# Altium footprint library alexsb.PCBLIB: 444 footprints (part 26 of 28)
Each footprint in its own frame and in the unit in brackets; x right, y up, seen from the top. Pads: shape width x height; smd on the part's side, far side on the other; paste and mask are expansions set on the pad; w line width, h text height; cw(c..) or ccw(c..) is an arc to the next point about the centre after c.
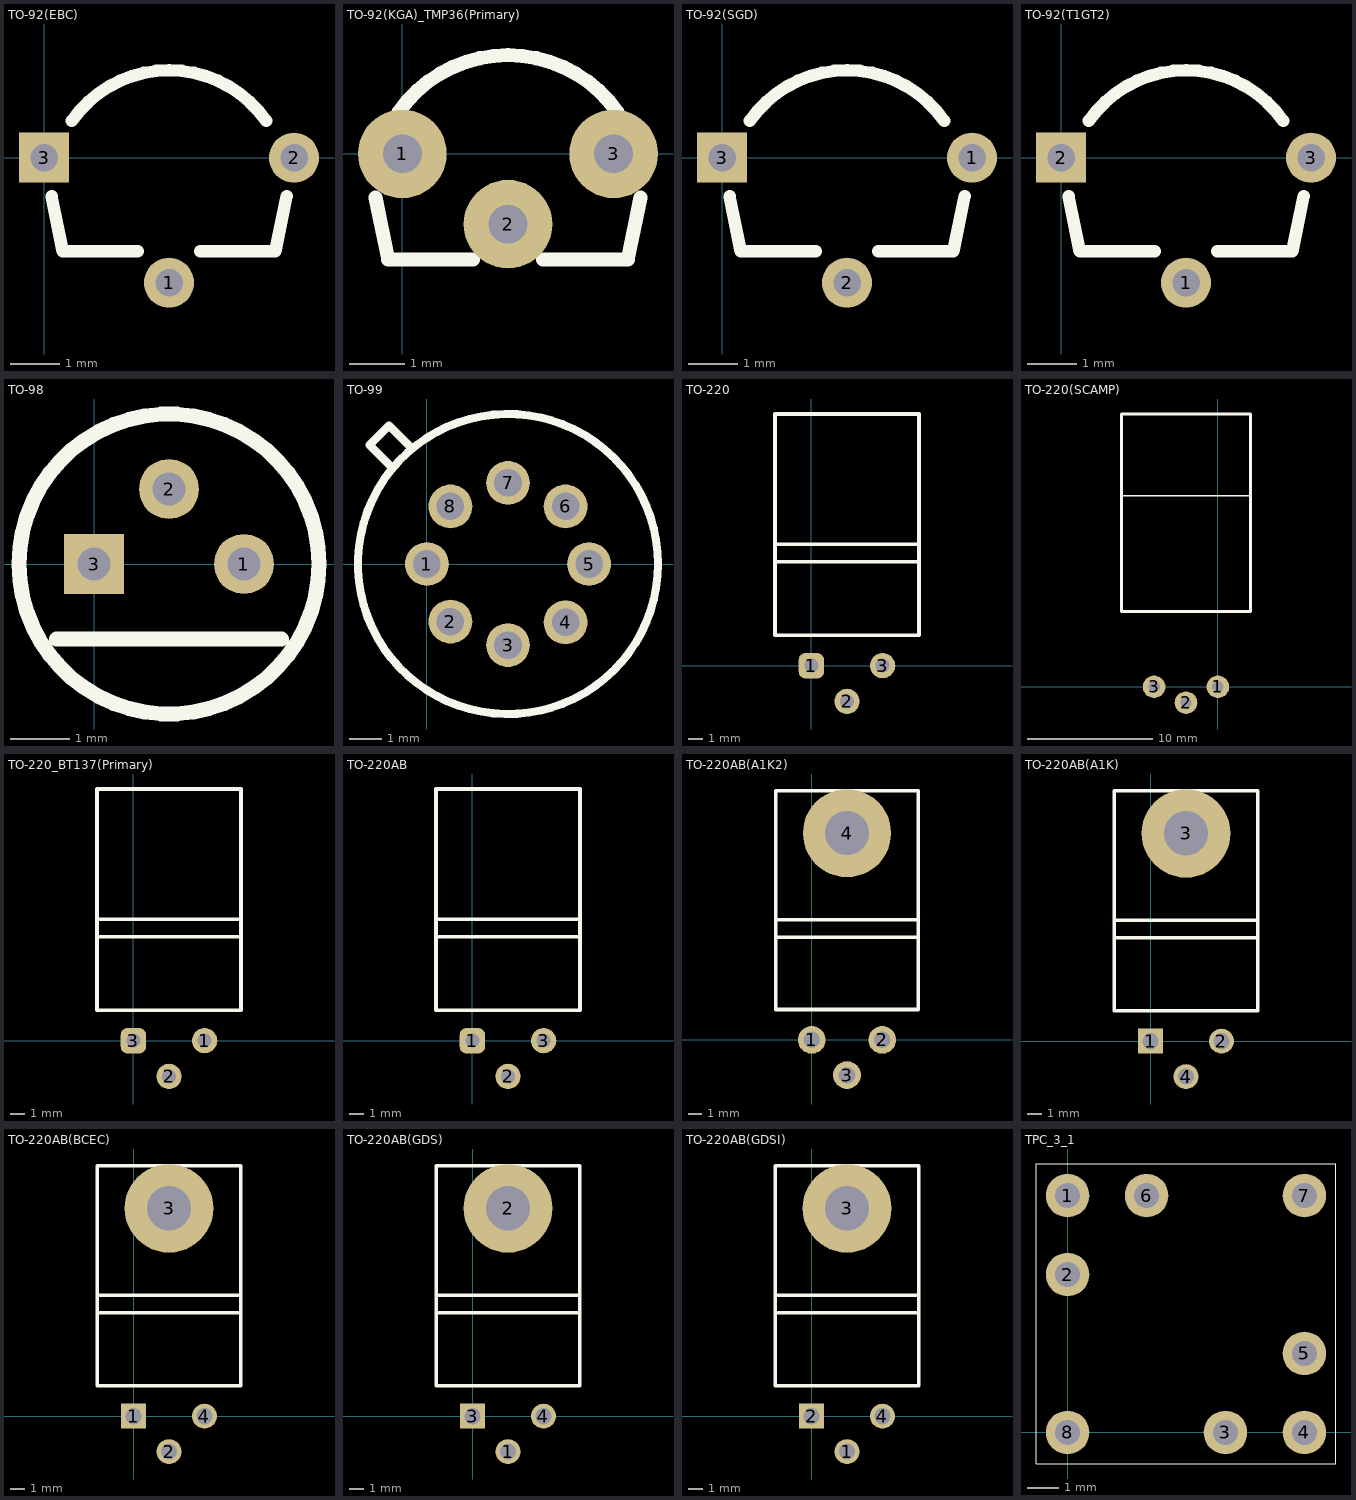
[diagram p25: the footprints below, top view; thin cyan lines are the x and y axes]

## TO-92(EBC) [mil]
pads (3):
  round 40 hole 22: 1(100,-100) 2(200,0)
  rect 40x40 hole 22: 3(0,0)
Top Overlay:
  lines w10: 6,-31 15,-75 75,-75 ; 22.18,29.49 cw(c100,-25) 177.82,29.49 ; 125,-75 185,-75 194,-31

## TO-92(KGA)_TMP36(Primary) [mm]
pads (3):
  round 1.6 hole 0.7: 1(0,0) 2(1.905,-1.27) 3(3.81,0)
Top Overlay:
  lines w0.254: -0.483,-0.787 -0.254,-1.905 1.27,-1.905 ; -0.072,0.749 cw(c1.905,-0.635) 3.882,0.749 ; 2.54,-1.905 4.064,-1.905 4.293,-0.787

## TO-92(SGD) [mil]
pads (3):
  round 40 hole 22: 1(200,0) 2(100,-100)
  rect 40x40 hole 22: 3(0,0)
Top Overlay:
  lines w10: 6,-31 15,-75 75,-75 ; 22.18,29.49 cw(c100,-25) 177.82,29.49 ; 125,-75 185,-75 194,-31

## TO-92(T1GT2) [mil]
pads (3):
  round 40 hole 22: 1(100,-100) 3(200,0)
  rect 40x40 hole 22: 2(0,0)
Top Overlay:
  lines w10: 6,-31 15,-75 75,-75 ; 22.18,29.49 cw(c100,-25) 177.82,29.49 ; 125,-75 185,-75 194,-31

## TO-98 [mil]
pads (3):
  round 40 hole 22: 1(100,0) 2(50,50)
  rect 40x40 hole 22: 3(0,0)
Top Overlay:
  circle w10: c50,0 r100
  lines w10: -25,-50 125,-50

## TO-99 [mil]
pads (8):
  round 54 hole 34: 1(0,0) 2(29,-71) 3(100,-100) 4(171,-72) 5(200,0) 6(171,71) 7(100,100) 8(29,71)
Top Overlay:
  circle w10: c100,0 r185
  lines w10: -43,119 -71,147 -47,171 -19,143

## TO-220 [mm]
pads (3):
  rrect50% 1.8x1.8 hole 1: 1(0,0)
  round 1.8 hole 1: 2(2.54,-2.54) 3(5.08,0)
Top Overlay:
  lines w0.254: -2.591,7.391 7.671,7.391 ; -2.591,8.661 7.671,8.661 ; -2.591,2.184 7.671,2.184 7.671,17.932 -2.591,17.932 -2.591,2.184

## TO-220(SCAMP) [mm]
pads (3):
  round 1.8 hole 0.9: 1(0,0) 2(-2.54,-1.27) 3(-5.08,0)
Top Overlay:
  lines w0.1: -7.62,15.24 2.54,15.24
  lines w0.254: -7.671,5.994 2.591,5.994 2.591,21.742 -7.671,21.742 -7.671,5.994

## TO-220_BT137(Primary) [mm]
pads (3):
  round 1.8 hole 1: 1(5.08,0) 2(2.54,-2.54)
  rrect50% 1.8x1.8 hole 1: 3(0,0)
Top Overlay:
  lines w0.254: -2.591,7.391 7.671,7.391 ; -2.591,8.661 7.671,8.661 ; -2.591,2.184 7.671,2.184 7.671,17.932 -2.591,17.932 -2.591,2.184

## TO-220AB [mm]
pads (3):
  rrect50% 1.8x1.8 hole 1: 1(0,0)
  round 1.8 hole 1: 2(2.54,-2.54) 3(5.08,0)
Top Overlay:
  lines w0.254: -2.591,7.391 7.671,7.391 ; -2.591,8.661 7.671,8.661 ; -2.591,2.184 7.671,2.184 7.671,17.932 -2.591,17.932 -2.591,2.184

## TO-220AB(A1K2) [mm]
pads (4):
  round 2 hole 1.2: 1(0,0) 2(5.08,0) 3(2.54,-2.54)
  round 6.35 hole 3.175: 4(2.54,14.884)
Top Overlay:
  lines w0.254: -2.591,7.391 7.671,7.391 ; -2.591,8.661 7.671,8.661 ; -2.591,2.184 -2.591,17.932 7.671,17.932 7.671,2.184 -2.591,2.184

## TO-220AB(A1K) [mil]
pads (4):
  rect 70x70 hole 46: 1(0,0)
  round 70 hole 46: 2(200,0) 4(100,-100)
  round 250 hole 125: 3(100,586)
Top Overlay:
  lines w10: -102,291 302,291 ; -102,341 302,341 ; -102,86 -102,706 302,706 302,86 -102,86

## TO-220AB(BCEC) [mil]
pads (4):
  rect 70x70 hole 46: 1(0,0)
  round 70 hole 46: 2(100,-100) 4(200,0)
  round 250 hole 125: 3(100,586)
Top Overlay:
  lines w10: -102,291 302,291 ; -102,341 302,341 ; -102,86 -102,706 302,706 302,86 -102,86

## TO-220AB(GDS) [mil]
pads (4):
  round 70 hole 46: 1(100,-100) 4(200,0)
  round 250 hole 125: 2(100,586)
  rect 70x70 hole 46: 3(0,0)
Top Overlay:
  lines w10: -102,291 302,291 ; -102,341 302,341 ; -102,86 302,86 302,706 -102,706 -102,86

## TO-220AB(GDSI) [mil]
pads (4):
  round 70 hole 46: 1(100,-100) 4(200,0)
  rect 70x70 hole 46: 2(0,0)
  round 250 hole 125: 3(100,586)
Top Overlay:
  lines w10: -102,291 302,291 ; -102,341 302,341 ; -102,86 302,86 302,706 -102,706 -102,86

## TPC_3_1 [mm]
pads (8):
  round 1.4 hole 0.8: 1(0,7.62) 2(0,5.08) 3(5.08,0) 4(7.62,0) 5(7.62,2.54) 6(2.54,7.62) 7(7.62,7.62) 8(0,0)
Top Overlay:
  lines w0.025: -1.016,-1.016 8.636,-1.016 8.636,8.636 -1.016,8.636 -1.016,-1.016